# Altium footprint library conn_sw.PCBLIB: 173 footprints (part 10 of 11)
Each footprint in its own frame and in the unit in brackets; x right, y up, seen from the top. Pads: shape width x height; smd on the part's side, far side on the other; paste and mask are expansions set on the pad; w line width, h text height; cw(c..) or ccw(c..) is an arc to the next point about the centre after c.
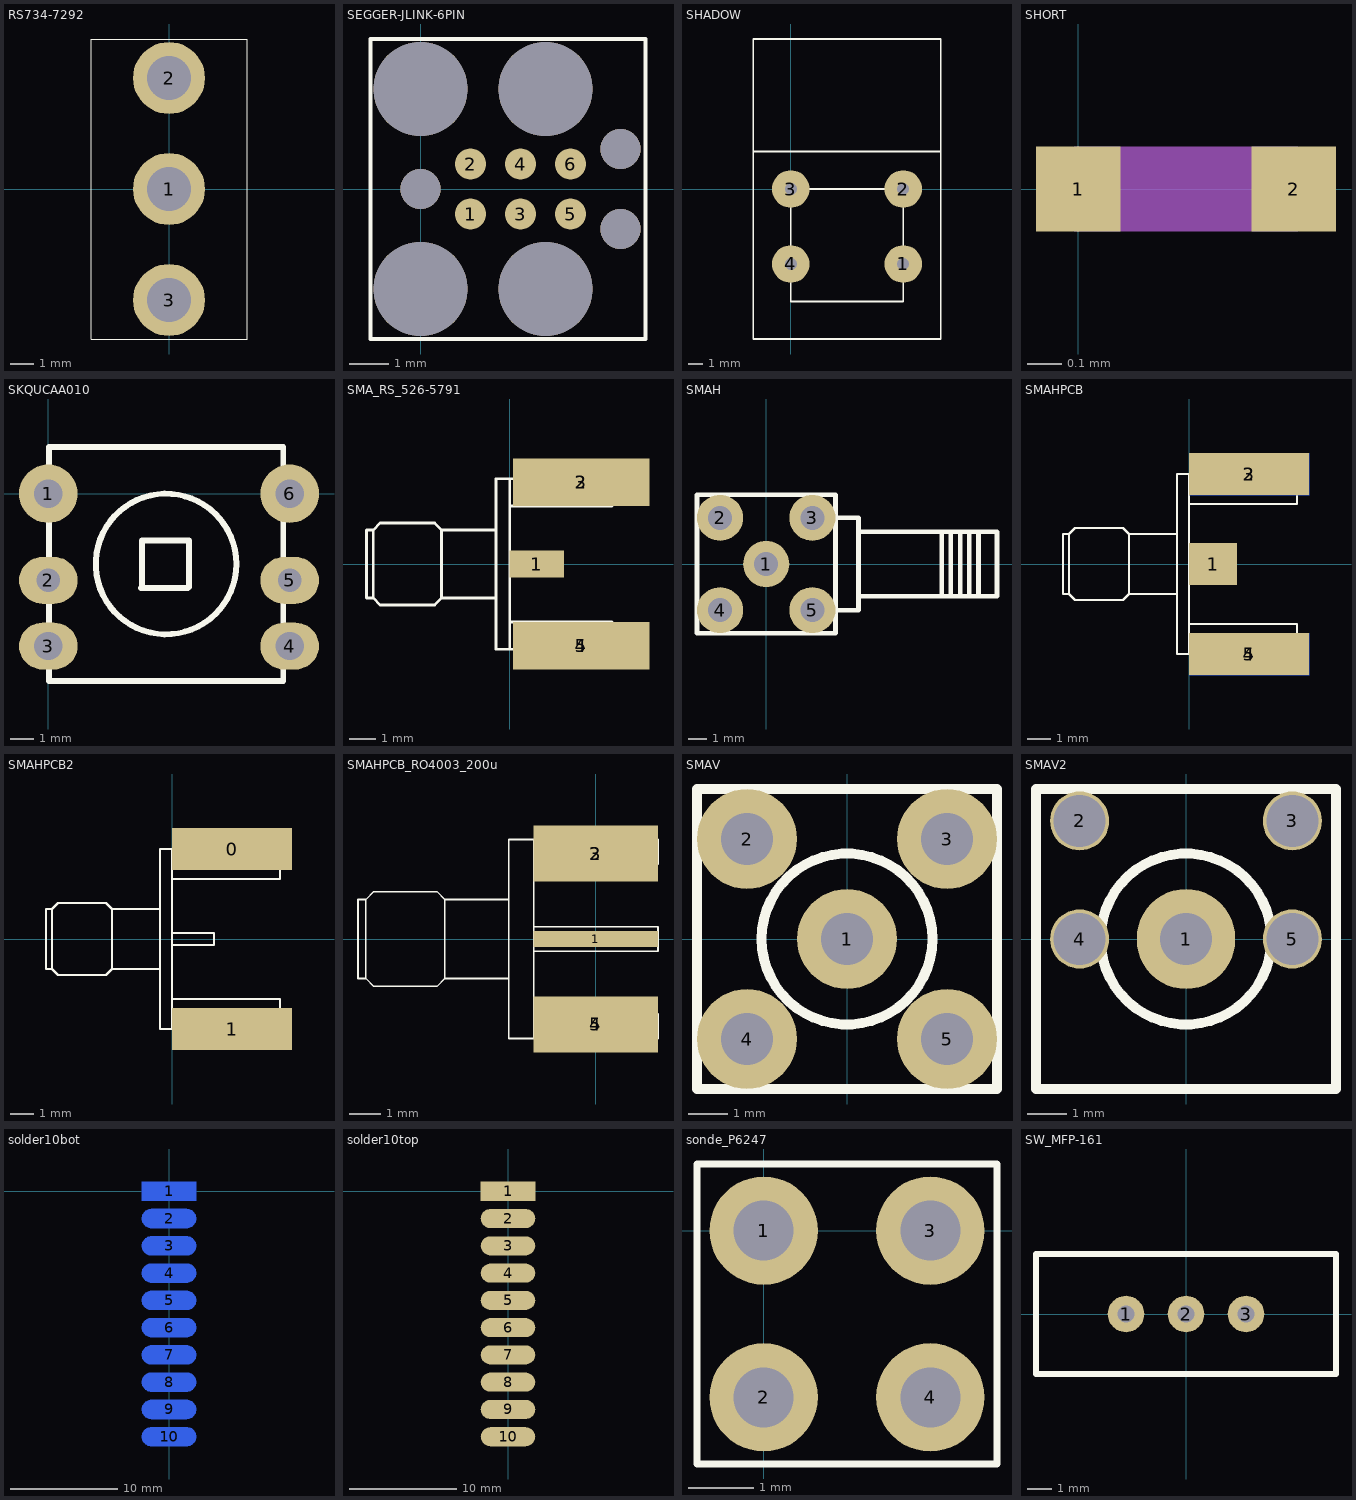
[diagram p9: the footprints below, top view; thin cyan lines are the x and y axes]

## RS734-7292 [mil]
pads (3):
  round 120 hole 73: 1(0,0) 2(0,185) 3(0,-185)
Top Overlay:
  lines w1.97: -130,-250 130,-250 130,250 -130,250 -130,-250

## SEGGER-JLINK-6PIN [mil]
pads (13):
  round 31 smd: 1(50,-25) 2(50,25) 3(100,-25) 4(100,25) 5(150,-25) 6(150,25)
  round 94 hole 94: ""(0,-100) ""(0,100) ""(125,-100) ""(125,100)
  round 40 hole 40: ""(0,0) ""(200,-40) ""(200,40)
Top Overlay:
  lines w3.94: -50,-150 225,-150 225,150 -50,150 -50,-150

## SHADOW [mil]
pads (4):
  round 100 hole 32: 1(300,-200) 2(300,0) 3(0,0) 4(0,-200)
Top Overlay:
  lines w5: -100,100 400,100 ; -100,-400 300,-400 400,-400 400,400 -100,400 -100,-400 ; 0,-300 300,-300 300,0 0,0 0,-300

## SHORT [mm]
pads (2):
  rect 0.25x0.25 smd: 1(0,0) 2(0.635,0)
Mechanical 30:
  lines w0.25: 0,0 0.635,0

## SKQUCAA010 [mm]
pads (6):
  round 2.5 hole 1.2: 1(0,0) 6(10.3,0)
  oval 2.5x2 hole 1: 2(0,-3.7) 5(10.3,-3.7)
  oval 2.5x2 hole 1.2: 3(0,-6.5) 4(10.3,-6.5)
Top Overlay:
  circle w0.254: c5.025,-3 r3
  lines w0.254: 0.025,-8 10.025,-8 10.025,2 0.025,2 0.025,-8 ; 3.95,-4.025 4,-3.975 4,-2 6,-2 6,-3.975 5.95,-4.025 3.95,-4.025

## SMA_RS_526-5791 [mil]
pads (5):
  rect 80x40 smd: 1(40,0)
  rect 200x70 smd: 2(105,120) 3(105,120) 4(105,-120) 5(105,-120)
Top Overlay:
  lines w4: -20,-50 -100,-50 ; -20,50 -100,50 ; 0,-85 150,-85 150,-125 0,-125 ; 0,-10 70,-10 70,10 0,10 ; 0,120 0,-125 ; -200,-50 -210,-50 -210,50 -200,50 ; -200,-50 -190,-60 -110,-60 -100,-50 ; -200,-50 -200,50 ; -200,50 -190,60 -110,60 -100,50 ; -100,-50 -100,50 ; 0,-125 -20,-125 -20,125 0,125 ; 0,125 150,125 150,85 0,85 0,125

## SMAH [mil]
pads (5):
  round 100 hole 52: 1(0,0) 2(-100,100) 3(100,100) 4(-100,-100) 5(100,-100)
Top Overlay:
  lines w10: 150,-100 200,-100 200,100 150,100 ; 200,-70 500,-70 500,70 200,70 ; 380,-70 380,70 400,70 400,-70 420,-70 420,70 440,70 440,60 440,-70 460,-70 460,70 ; -150,-150 150,-150 150,150 -150,150 -150,-150

## SMAHPCB [mil]
pads (5):
  rect 80x70 smd: 1(40,0)
  rect 200x70 smd far side: 2(100,150) 4(100,-150)
  rect 200x70 smd: 3(100,150) 5(100,-150)
Top Overlay:
  lines w4: -20,-50 -100,-50 ; -20,50 -100,50 ; 0,-130 180,-130 180,-100 0,-100 ; 0,-10 70,-10 70,10 0,10 ; 0,120 0,-120 0,-150 -20,-150 -20,150 0,150 0,100 180,100 180,130 0,130 ; -200,-50 -200,50 ; -200,-50 -190,-60 -110,-60 -100,-50 ; -200,-50 -210,-50 -210,50 -200,50 ; -200,50 -190,60 -110,60 -100,50 ; -100,-50 -100,50

## SMAHPCB2 [mil]
pads (2):
  rect 200x70 smd: 0(100,150) 1(100,-150)
Top Overlay:
  lines w4: -20,-50 -100,-50 ; -20,50 -100,50 ; 0,-130 180,-130 180,-100 0,-100 ; 0,-10 70,-10 70,10 0,10 ; 0,120 0,-120 0,-150 -20,-150 -20,150 0,150 0,100 180,100 180,130 0,130 ; -200,-50 -200,50 ; -200,-50 -190,-60 -110,-60 -100,-50 ; -200,-50 -210,-50 -210,50 -200,50 ; -200,50 -190,60 -110,60 -100,50 ; -100,-50 -100,50

## SMAHPCB_RO4003_200u [mm]
pads (5):
  rect 4x0.5 smd: 1(0,0)
  rect 4x1.8 smd: 2(0,2.75) 3(0,2.75) 4(0,-2.75) 5(0,-2.75)
Top Overlay:
  lines w0.05: -2.824,-1.27 -4.856,-1.27 ; -2.824,1.27 -4.856,1.27 ; -2,-2.4 2,-2.4 2,-3.2 -2,-3.2 ; -2,-0.4 2,-0.4 2,0.4 -2,0.4 ; -2,2.4 2,2.4 2,3.2 -2,3.2 ; -7.396,-1.27 -7.396,1.27 ; -7.396,-1.27 -7.142,-1.524 -5.11,-1.524 -4.856,-1.27 ; -7.396,-1.27 -7.65,-1.27 -7.65,1.27 -7.396,1.27 ; -7.396,1.27 -7.142,1.524 -5.11,1.524 -4.856,1.27 ; -4.856,-1.27 -4.856,1.27 ; -2.8,3.2 -2.8,-3.2 -2,-3.2 ; -2.8,3.2 -2.8,3.2 ; -2.8,3.2 -2,3.2 ; -2,-3.2 -2,3.2

## SMAV [mil]
pads (5):
  round 100 hole 52: 1(0,0) 2(-100,100) 3(100,100) 4(-100,-100) 5(100,-100)
Top Overlay:
  circle w10: c0,0 r85.44
  lines w10: -150,-150 -150,150 150,150 150,-150 -150,-150

## SMAV2 [mm]
pads (5):
  oval 2.5x2.54 hole 1.321: 1(0,0)
  round 1.5 hole 1.321: 2(-2.7,3) 3(2.7,3) 4(-2.7,0) 5(2.7,0)
Top Overlay:
  circle w0.254: c0,0 r2.17
  lines w0.254: -3.81,-3.81 -3.81,3.81 3.81,3.81 3.81,-3.81 -3.81,-3.81

## solder10bot [mil]
pads (10):
  rect 200x70 smd far side: 1(0,0)
  oval 200x70 smd far side: 2(0,-100) 3(0,-200) 4(0,-300) 5(0,-400) 6(0,-500) 7(0,-600) 8(0,-700) 9(0,-800) 10(0,-900)

## solder10top [mil]
pads (10):
  rect 200x70 smd: 1(0,0)
  oval 200x70 smd: 2(0,-100) 3(0,-200) 4(0,-300) 5(0,-400) 6(0,-500) 7(0,-600) 8(0,-700) 9(0,-800) 10(0,-900)

## sonde_P6247 [mil]
pads (4):
  round 65 hole 36: 1(0,0) 2(0,-100) 3(100,0) 4(100,-100)
Top Overlay:
  lines w3.94: -40,-140 140,-140 140,40 -40,40 -40,-140

## SW_MFP-161 [mil]
pads (3):
  round 60 hole 27.56: 1(-98.43,0) 2(0,0) 3(98.43,0)
Top Overlay:
  lines w10: -246.06,-98.43 -246.06,98.43 246.06,98.43 246.06,-98.43 -246.06,-98.43